# Altium footprint library Choke.PcbLib: 28 footprints (part 2 of 2)
Each footprint in its own frame and in the unit in brackets; x right, y up, seen from the top. Pads: shape width x height; smd on the part's side, far side on the other; paste and mask are expansions set on the pad; w line width, h text height; cw(c..) or ccw(c..) is an arc to the next point about the centre after c.
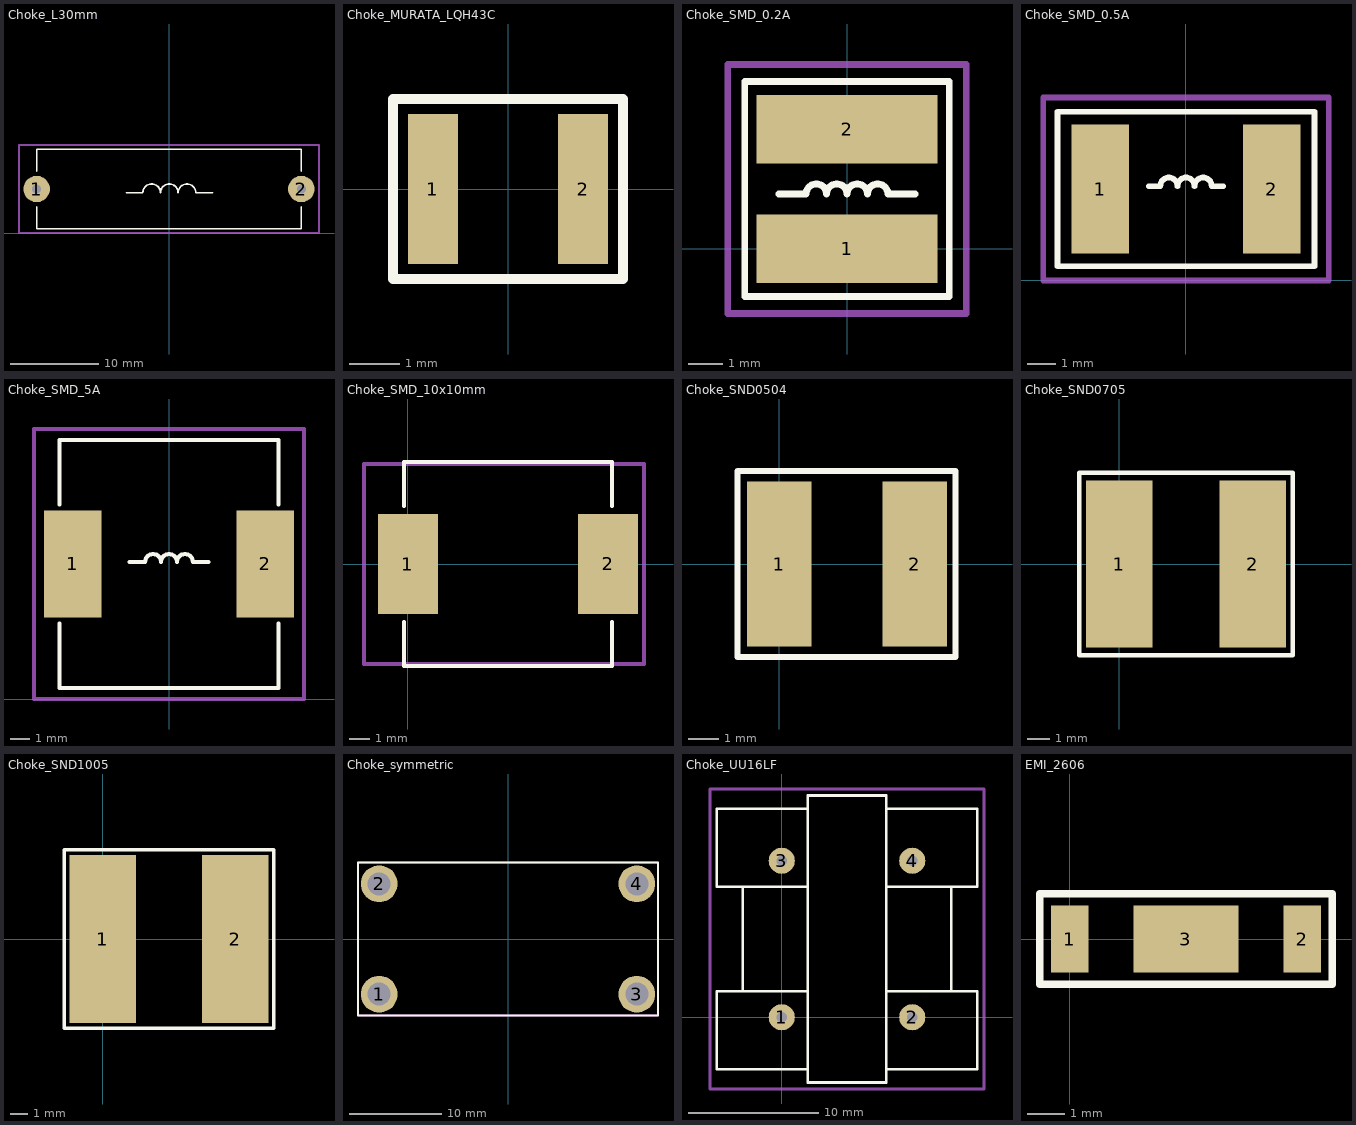
[diagram p1: the footprints below, top view; thin cyan lines are the x and y axes]

## Choke_L30mm [mm]
pads (2):
  round 3 hole 1: 1(-15,5) 2(15,5)
Top Overlay:
  lines w0.2: -15,3 -15,0.5 15,0.5 15,3 ; -15,7 -15,9.5 15,9.5 15,7 ; -4.85,4.57 -2.967,4.57 cw(c-1.967,4.57) -0.967,4.57 cw(c0.033,4.57) 1.033,4.57 cw(c2.033,4.57) 3.033,4.57 ; 3.05,4.57 4.933,4.57
Mechanical 15:
  lines w0.254: -17,0 -17,10 17,10 17,0 -17,0

## Choke_MURATA_LQH43C [mm]
pads (2):
  rect 1x3 smd: 1(-1.5,0) 2(1.5,0)
Top Overlay:
  lines w0.2: -2.3,-1.8 2.3,-1.8 2.3,1.8 -1.2,1.8 -2.3,1.8 -2.3,-1.8
3D body "User Library-Murata_LQH3NP_M0(1212).STEP": height 1.4, standoff -0.01, extent -1.51,-1.5 1.51,1.5

## Choke_SMD_0.2A [mm]
pads (2):
  rect 5.3x2 smd: 1(0,0) 2(0,3.5)
Top Overlay:
  lines w0.2: -2,1.6 -1.2,1.6 cw(c-0.9,1.6) -0.6,1.6 cw(c-0.3,1.6) 0,1.6 cw(c0.3,1.6) 0.6,1.6 cw(c0.9,1.6) 1.2,1.6 2,1.6 ; -3,-1.4 3,-1.4 3,4.9 -3,4.9 -3,-1.4
Mechanical 15:
  lines w0.2: -3.5,-1.9 3.5,-1.9 3.5,5.4 -3.5,5.4 -3.5,-1.9

## Choke_SMD_0.5A [mm]
pads (2):
  rect 2x4.5 smd: 1(-3,3.2) 2(3,3.2)
Top Overlay:
  lines w0.2: -1.3,3.3 -0.9,3.3 cw(c-0.6,3.3) -0.3,3.3 cw(c0,3.3) 0.3,3.3 cw(c0.6,3.3) 0.9,3.3 1.3,3.3 ; -4.5,0.5 4.5,0.5 4.5,5.9 -4.5,5.9 -4.5,0.5
Mechanical 15:
  lines w0.2: -5,0 5,0 5,6.4 -5,6.4 -5,0

## Choke_SMD_5A [mm]
pads (2):
  rect 2.9x5.4 smd: 1(-4.85,6.8) 2(4.85,6.8)
Top Overlay:
  lines w0.2: -5.5,3.8 -5.5,0.55 5.5,0.55 5.5,3.8 ; -5.5,9.8 -5.5,13.05 5.5,13.05 5.5,9.8 ; -2,6.9 -1.2,6.9 cw(c-0.8,6.9) -0.4,6.9 cw(c0,6.9) 0.4,6.9 cw(c0.8,6.9) 1.2,6.9 2,6.9
Mechanical 15:
  lines w0.2: -6.8,0 6.8,0 6.8,13.6 -6.8,13.6 -6.8,9.5 -6.8,0.2 -6.8,0

## Choke_SMD_10x10mm [mm]
pads (2):
  rect 3x5 smd: 1(0,0) 2(10,0)
Top Overlay:
  lines w0.2: -0.2,-2.9 -0.2,-5.1 10.2,-5.1 10.2,-2.9 ; -0.2,2.9 -0.2,5.1 10.2,5.1 10.2,2.9
TopAssy:
  lines w0.2: -2.2,-5 -2.2,5 11.8,5 11.8,-5 -2.2,-5
3D body "Triad Magnetics-AX104R-6R8.STEP": height 4, standoff 0, extent -0.2,-5.15 10.2,5.15

## Choke_SND0504 [mm]
height 4.5
pads (2):
  rect 2.15x5.5 smd: 1(0,0) 2(4.5,0)
Top Overlay:
  lines w0.2: -1.4,-3.1 -1.4,3.1 5.875,3.1 5.875,-3.1 -1.4,-3.1
3D body: height 3.7, standoff 0.8, extent 0.05,-2.199 4.449,2.199
3D body: height 4.5, standoff 3.7, extent -0.651,-2.601 5.151,2.601
3D body: height 0.8, standoff 0, extent -0.651,-2.601 5.151,2.601

## Choke_SND0705 [mm]
height 5
pads (2):
  rect 3x7.5 smd: 1(0,0) 2(6,0)
Top Overlay:
  lines w0.2: -1.8,-4.1 -1.8,4.1 7.8,4.1 7.8,-4.1 -1.8,-4.1
3D body: height 5, standoff 4, extent -0.899,-3.499 6.9,3.499
3D body: height 1, standoff 0, extent -0.899,-3.499 6.9,3.499
3D body: height 4, standoff 1, extent 0.001,-2.999 6,2.999

## Choke_SND1005 [mm]
pads (2):
  rect 3.75x9.5 smd: 1(0,0) 2(7.5,0)
Top Overlay:
  lines w0.2: -2.175,-5.05 9.675,-5.05 9.675,5.05 -2.175,5.05 -2.175,-5.05
3D body: height 1, standoff 0, extent -1.25,-4.501 8.751,4.501
3D body: height 4, standoff 1, extent -0.049,-3.799 7.55,3.799
3D body: height 5.4, standoff 4, extent -1.25,-4.501 8.751,4.501

## Choke_symmetric [mm]
pads (4):
  round 4 hole 2.5: 1(-14,-6) 2(-14,6) 3(14,-6) 4(14,6)
Top Overlay:
  lines w0.2: -16.3,-8.3 -16.3,5.9 -16.3,8.3 16.3,8.3 16.3,-8.3 -16.3,-8.3
TopAssy:
  lines w0.2: -16.3,-8.3 -16.3,8.3 16.3,8.3 16.3,-8.3 -16.3,-8.3
3D body "User Library-D29_2x30.STEP": height 29.75, standoff 0.25, extent -15.34,-8.02 15.34,8.08

## Choke_UU16LF [mm]
height 28.5
pads (4):
  round 2 hole 0.8: 1(0,0) 2(10,0) 3(0,12) 4(10,12)
Top Overlay:
  lines w0.2: 2,-4 -5,-4 -5,2 -3,2 ; 2,2 -3,2 ; 2,10 -3,10 ; 2,16 -5,16 -5,10 -3,10 ; 8,-4 15,-4 15,2 13,2 ; 8,2 13,2 ; 8,10 13,10 ; 8,16 15,16 15,10 13,10 ; -3,2 -3,10 ; 13,2 13,10 ; 2,-5 8,-5 8,17 2,17 2,-5
Mechanical 15:
  lines w0.2: -5.5,-5.5 -5.5,17.5 15.5,17.5 15.5,-5.5 -5.5,-5.5

## EMI_2606 [mm]
pads (3):
  rect 1x1.8 smd: 1(0,0) 2(6.2,0)
  rect 2.8x1.8 smd: 3(3.1,0)
Top Overlay:
  lines w0.2: -0.8,-1.2 7,-1.2 7,1.2 -0.8,1.2 -0.8,-1.2
3D body: height 1.6, standoff 0, extent 4.4,-0.8 5.8,0.8
3D body: height 1.6, standoff 0, extent 5.801,-0.799 6.499,0.799
3D body: height 1.6, standoff 0, extent 1.801,-0.799 4.399,0.799
3D body: height 1.6, standoff 0, extent -0.299,-0.799 0.399,0.799
3D body: height 1.6, standoff 0, extent 0.4,-0.8 1.8,0.8